# Altium schematic symbol library Resistors.SchLib: 193 symbols (part 2 of 3)
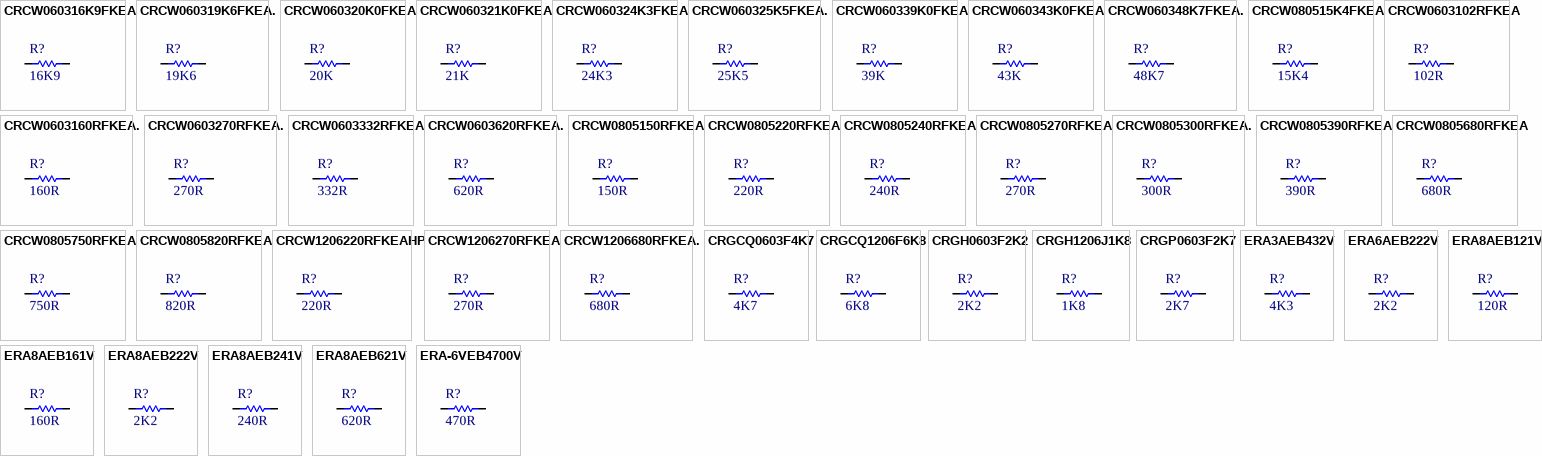
[diagram p5: symbols CRCW060316K9FKEA to ERA-6VEB4700V]

## ERA-6VEB4700V
designator R?, comment 470R
RES 470R, ±0.1%, 125mW, 200V, 0805 [2012 Metric], Thin Film; Manufacturer: Panasonic; Manufacturer Part Number: ERA-6VEB4700V; Voltage: 100V; Temperature Coefficient: ± 25ppm/°C; Value: 470R; Supplier 1: Mouser; Supplier Part Number 1: 667-ERA-6VEB4700V; Tolerance: ± 0.1%; Power: 125mW; Package: 0805 [2012 Metric]; Part Type: Thin Film; ComponentLink1Description: Datasheet; ComponentLink1URL: https://eu.mouser.com/datasheet/2/315/Panasonic_Resistor_Thin_Film_(ERA-xV_2c_ERA-xK_Ser-1815278.pdf; Mounting: SMD
footprint RESC2012N (Chip Resistor, Body 2.0x1.3mm, IPC Medium Density)
pins: 1, 2
1 alternate drawing of the same symbol

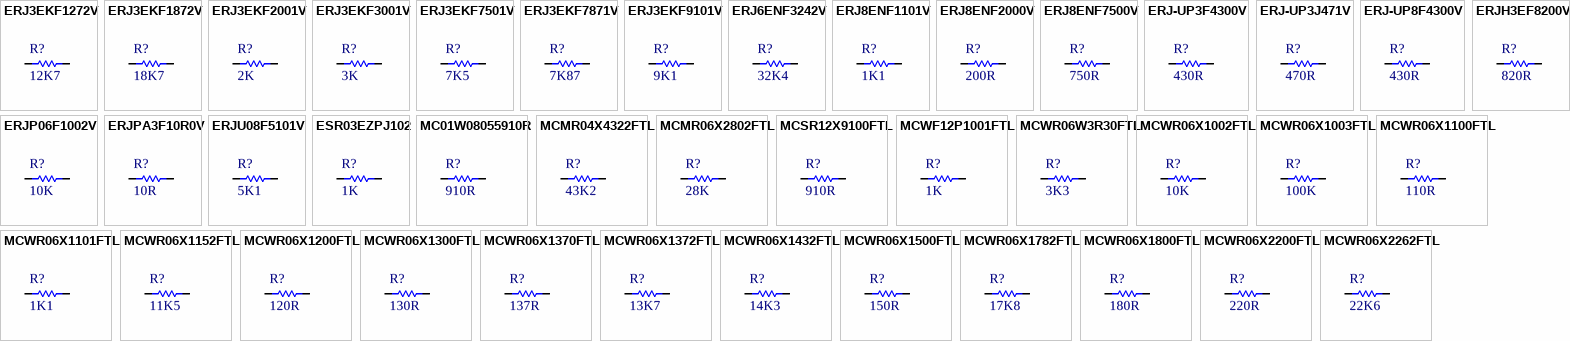
[diagram p2: symbols ERJ3EKF1272V to MCWR06X2262FTL]

## ERJ3EKF1272V
designator R?, comment 12K7
RES 12K7, ± 1%, 100 mW, 0603 [1608 Metric], Thick Film; Manufacturer: PANASONIC; Manufacturer Part Number: ERJ3EKF1272V; Power: 100mW; Voltage: 75V; Temperature Coefficient: ± 100ppm/°C; Value: 12K7; Supplier 1: Farnell; Supplier Part Number 1: 2059415; Tolerance: ± 1%; Package: 0603 [1608 Metric]; Part Type: Thick Film; ComponentLink1Description: Datasheet; ComponentLink1URL: https://industrial.panasonic.com/cdbs/www-data/pdf/RDA0000/AOA0000C304.pdf; Mounting: SMD
footprint RESC1608N (Chip Resistor, Body 1.6x0.8mm, IPC Medium Density)
pins: 1, 2
1 alternate drawing of the same symbol

## ERJ3EKF1872V
designator R?, comment 18K7
RES 18K7, ± 1%, 100 mW, 0603 [1608 Metric], Thick Film; Manufacturer: PANASONIC; Manufacturer Part Number: ERJ3EKF1872V; Power: 100mW; Voltage: 75V; Temperature Coefficient: ± 100ppm/°C; Value: 18K7; Supplier 1: Farnell; Supplier Part Number 1: 2059429; Tolerance: ± 1%; Package: 0603 [1608 Metric]; Part Type: Thick Film; ComponentLink1Description: Datasheet; ComponentLink1URL: http://industrial.panasonic.com/cdbs/www-data/pdf/RDA0000/AOA0000C304.pdf; Mounting: SMD
footprint RESC1608N (Chip Resistor, Body 1.6x0.8mm, IPC Medium Density)
pins: 1, 2
1 alternate drawing of the same symbol

## ERJ3EKF2001V
designator R?, comment 2K
RES 2K, ±1%, 125mW, 75V, 0603 [1608 Metric], Thick Film; Manufacturer: PANASONIC; Manufacturer Part Number: ERJ3EKF2001V; Power: 100mW; Temperature Coefficient: ± 100ppm/°C; Value: 2K; Supplier 1: Farnell; Supplier Part Number 1: 2059343; Tolerance: ± 1%; Voltage: 75V; Package: 0603 [1608 Metric]; Part Type: Thick Film; ComponentLink1Description: Datasheet; ComponentLink1URL: http://industrial.panasonic.com/cdbs/www-data/pdf/RDA0000/AOA0000C304.pdf; Mounting: SMD
footprint RESC1608N (Chip Resistor, Body 1.6x0.8mm, IPC Medium Density)
pins: 1, 2
1 alternate drawing of the same symbol

## ERJ3EKF3001V
designator R?, comment 3K
RES 3K, ±1%, 100mW, 75V, 0603 [1608 Metric], Thick Film; Manufacturer: PANASONIC; Manufacturer Part Number: ERJ3EKF3001V; Temperature Coefficient: ± 100ppm/°C; Value: 3K; Supplier 1: Farnell; Supplier Part Number 1: 2059357; Tolerance: ± 1%; Power: 100mW; Voltage: 75V; Package: 0603 [1608 Metric]; Part Type: Thick Film; ComponentLink1Description: Datasheet; ComponentLink1URL: http://industrial.panasonic.com/cdbs/www-data/pdf/RDA0000/AOA0000C304.pdf; Mounting: SMD
footprint RESC1608N (Chip Resistor, Body 1.6x0.8mm, IPC Medium Density)
pins: 1, 2
1 alternate drawing of the same symbol

## ERJ3EKF7501V
designator R?, comment 7K5
RES 7K5, ±1%, 100mW, 75V, 0603 [1608 Metric], Thick Film; Manufacturer: PANASONIC; Manufacturer Part Number: ERJ3EKF7501V; Temperature Coefficient: ± 100ppm/°C; Value: 7K5; Supplier 1: Farnell; Supplier Part Number 1: 2059395; Tolerance: ± 1%; Power: 100mW; Voltage: 75V; Package: 0603 [1608 Metric]; Part Type: Thick Film; ComponentLink1Description: Datasheet; ComponentLink1URL: http://industrial.panasonic.com/cdbs/www-data/pdf/RDA0000/AOA0000C304.pdf; Mounting: SMD
footprint RESC1608N (Chip Resistor, Body 1.6x0.8mm, IPC Medium Density)
pins: 1, 2
1 alternate drawing of the same symbol

## ERJ3EKF7871V
designator R?, comment 7K87
RES 7K87, ±1%, 100mW, 75V, 0603 [1608 Metric], Thick Film; Manufacturer: PANASONIC; Manufacturer Part Number: ERJ3EKF7871V; Temperature Coefficient: ± 100ppm/°C; Value: 7K87; Supplier 1: Farnell; Supplier Part Number 1: 2059397RL; Tollerance: ± 1%; Power: 100mW; Voltage: 75V; Package: 0603 [1608 Metric]; Part Type: Thick Film; ComponentLink1Description: Datasheet; ComponentLink1URL: https://industrial.panasonic.com/cdbs/www-data/pdf/RDA0000/AOA0000C304.pdf; Mounting: SMD
footprint RESC1608N (Chip Resistor, Body 1.6x0.8mm, IPC Medium Density)
pins: 1, 2
1 alternate drawing of the same symbol

## ERJ3EKF9101V
designator R?, comment 9K1
RES 9K1, ±1%, 100mW, 75V, 0603 [1608 Metric], Thick Film; Manufacturer: PANASONIC; Manufacturer Part Number: ERJ3EKF9101V; Temperature Coefficient: ± 100ppm/°C; Value: 9K1; Supplier 1: Farnell; Supplier Part Number 1: 2059404; Tolerance: ± 1%; Power: 100mW; Voltage: 75V; Package: 0603 [1608 Metric]; Part Type: Thick Film; ComponentLink1Description: Datasheet; ComponentLink1URL: http://industrial.panasonic.com/cdbs/www-data/pdf/RDA0000/AOA0000C304.pdf; Mounting: SMD
footprint RESC1608N (Chip Resistor, Body 1.6x0.8mm, IPC Medium Density)
pins: 1, 2
1 alternate drawing of the same symbol

## ERJ6ENF3242V
designator R?, comment 32K4
RES 32K4, ±1%, 125mW, 150V, 0805 [2012 Metric], Thick Film; Manufacturer: PANASONIC; Manufacturer Part Number: ERJ6ENF3242V; Temperature Coefficient: ± 100ppm/°C; Value: 32K4; Supplier 1: Farnell; Supplier Part Number 1: 2303704; Tolerance: ± 1%; Power: 125mW; Voltage: 150V; Package: 0805 [2012 Metric]; Part Type: Thick Film; ComponentLink1Description: Datasheet; ComponentLink1URL: https://industrial.panasonic.com/cdbs/www-data/pdf/RDA0000/AOA0000C304.pdf; Mounting: SMD
footprint RESC2012N (Chip Resistor, Body 2.0x1.3mm, IPC Medium Density)
pins: 1, 2
1 alternate drawing of the same symbol

## ERJ8ENF1101V
designator R?, comment 1K1
RES 1K1, ±1%, 250mW, 200V, 1206 [3216 Metric], Thick Film; Manufacturer: PANASONIC; Manufacturer Part Number: ERJ8ENF1101V; Temperature Coefficient: ± 100ppm/°C; Value: 1K1; Supplier 1: Farnell; Supplier Part Number 1: 2307320; Tolerance: ± 1%; Power: 250mW; Voltage: 200V; Package: 1206 [3216 Metric]; Part Type: Thick Film; ComponentLink1Description: Datasheet; ComponentLink1URL: http://industrial.panasonic.com/cdbs/www-data/pdf/RDA0000/AOA0000C304.pdf; Mounting: SMD
footprint RESC3216N (Chip Resistor, Body 3.2x1.6mm, IPC Medium Density)
pins: 1, 2
1 alternate drawing of the same symbol

## ERJ8ENF2000V
designator R?, comment 200R
RES 200R, ±1%, 250mW, 200V, 1206 [3216 Metric], Thick Film; Manufacturer: PANASONIC; Manufacturer Part Number: ERJ8ENF2000V; Temperature Coefficient: ± 100ppm/°C; Value: 200R; Supplier 1: Farnell; Supplier Part Number 1: 2057752; Tolerance: ± 1%; Power: 250mW; Voltage: 200V; Package: 1206 [3216 Metric]; Part Type: Thick Film; ComponentLink1Description: Datasheet; ComponentLink1URL: https://industrial.panasonic.com/cdbs/www-data/pdf/RDA0000/AOA0000C304.pdf; Mounting: SMD
footprint RESC3216N (Chip Resistor, Body 3.2x1.6mm, IPC Medium Density)
pins: 1, 2
1 alternate drawing of the same symbol

## ERJ8ENF7500V
designator R?, comment 750R
RES 750R, ±1%, 250mW, 200V, 1206 [3216 Metric], Thick Film; Manufacturer: PANASONIC; Manufacturer Part Number: ERJ8ENF7500V; Temperature Coefficient: ± 100ppm/°C; Value: 750R; Supplier 1: Farnell; Supplier Part Number 1: 2057760; Tolerance: ± 1%; Power: 250mW; Voltage: 200V; Package: 1206 [3216 Metric]; Part Type: Thick Film; ComponentLink1Description: Datasheet; ComponentLink1URL: http://industrial.panasonic.com/cdbs/www-data/pdf/RDA0000/AOA0000C304.pdf; Mounting: SMD
footprint RESC3216N (Chip Resistor, Body 3.2x1.6mm, IPC Medium Density)
pins: 1, 2
1 alternate drawing of the same symbol

## ERJ-UP3F4300V
designator R?, comment 430R
RES 430R, ±1%, 100mW, 150V, 0603 [1608 Metric], Thick Film; Manufacturer: Panasonic; Manufacturer Part Number: ERJ-UP3F4300V; Power: 250mW; Temperature Coefficient: ± 100ppm/°C; Value: 430R; Supplier 1: Mouser; Supplier Part Number 1: 667-ERJ-UP3F4300V; Tolerance: ± 1%; Voltage: 150V; Package: 0603 [1608 Metric]; Part Type: Thick Film; ComponentLink1Description: Datasheet; ComponentLink1URL: https://eu.mouser.com/datasheet/2/315/Panasonic_Resistors_Thick_Film_Anti_Sulf_Anti_Surg-1825099.pdf; Mounting: SMD
footprint RESC1608N (Chip Resistor, Body 1.6x0.8mm, IPC Medium Density)
pins: 1, 2
1 alternate drawing of the same symbol

## ERJ-UP3J471V
designator R?, comment 470R
RES 470R, ±5%, 250mW, 150V, 0603 [1608 Metric], Thick Film; Manufacturer: Panasonic; Manufacturer Part Number: ERJ-UP3J471V; Temperature Coefficient: ± 100ppm/°C; Value: 470R; Supplier 1: Mouser; Supplier Part Number 1: 667-ERJ-UP3J471V; Tolerance: ± 5%; Power: 250mW; Voltage: 150V; Package: 0603 [1608 Metric]; Part Type: Thick Film; ComponentLink1Description: Datasheet; ComponentLink1URL: https://eu.mouser.com/datasheet/2/315/Panasonic_Resistors_Thick_Film_Anti_Sulf_Anti_Surg-1825099.pdf; Mounting: SMD
footprint RESC1608N (Chip Resistor, Body 1.6x0.8mm, IPC Medium Density)
pins: 1, 2
1 alternate drawing of the same symbol

## ERJ-UP8F4300V
designator R?, comment 430R
RES 430R, ±1%, 660mW, 500V, 1206 [3216 Metric], Thick Film; Manufacturer: Panasonic; Manufacturer Part Number: ERJ-UP8F4300V; Temperature Coefficient: ± 100ppm/°C; Value: 430R; Supplier 1: Mouser; Supplier Part Number 1: 667-ERJ-UP8F4300V; Tolerance: ± 1%; Power: 660mW; Voltage: 500V; Package: 1206 [3216 Metric]; Part Type: Thick Film; ComponentLink1Description: Datasheet; ComponentLink1URL: https://eu.mouser.com/ProductDetail/Panasonic/ERJ-UP8F4300V?qs=sGAEpiMZZMtlubZbdhIBIJmf1RnqvkayWGtjYlusRcs%3D; Mounting: SMD
footprint RESC3216N (Chip Resistor, Body 3.2x1.6mm, IPC Medium Density)
pins: 1, 2
1 alternate drawing of the same symbol

## ERJH3EF8200V
designator R?, comment 820R
RES 820R, ±1%, 125mW, 75V, 0603 [1608 Metric], Thick Film; Manufacturer: PANASONIC; Manufacturer Part Number: ERJH3EF8200V; Power: 100mW; Temperature Coefficient: ± 100ppm/°C; Value: 820R; Supplier 1: Farnell; Supplier Part Number 1: 3645208; Tolerance: ± 1%; Voltage: 75V; Package: 0603 [1608 Metric]; Part Type: Thick Film; ComponentLink1Description: Datasheet; ComponentLink1URL: http://www.farnell.com/datasheets/3179330.pdf; Mounting: SMD
footprint RESC1608N (Chip Resistor, Body 1.6x0.8mm, IPC Medium Density)
pins: 1, 2
1 alternate drawing of the same symbol

## ERJP06F1002V
designator R?, comment 10K
RES 10K, ±10%, 500mW, 400V, 0805 [2012 Metric], Thick Film; Manufacturer: PANASONIC; Manufacturer Part Number: ERJP06F1002V; Tolerance: ± 1%; Temperature Coefficient: ± 100ppm/°C; Value: 10K; Supplier 1: Farnell; Supplier Part Number 1: 1750767; Power: 500mW; Voltage: 400V; Package: 0805 [2012 Metric]; Part Type: Thick Film; ComponentLink1Description: Datasheet; ComponentLink1URL: https://industrial.panasonic.com/cdbs/www-data/pdf/RDO0000/AOA0000C331.pdf; Mounting: SMD
footprint RESC2012N (Chip Resistor, Body 2.0x1.3mm, IPC Medium Density)
pins: 1, 2
1 alternate drawing of the same symbol

## ERJPA3F10R0V
designator R?, comment 10R
RES 10R, ±1%, 250mW, 150V, 0603 [1608 Metric], Thick Film; Manufacturer: PANASONIC; Manufacturer Part Number: ERJPA3F10R0V; Temperature Coefficient: ± 100ppm/°C; Value: 10R; Supplier 1: Farnell; Supplier Part Number 1: 2335834; Tolerance: ± 1%; Power: 250mW; Voltage: 150V; Package: 0603 [1608 Metric]; Part Type: Thick Film; ComponentLink1Description: Datasheet; ComponentLink1URL: http://industrial.panasonic.com/cdbs/www-data/pdf/RDO0000/AOA0000C331.pdf; Mounting: SMD
footprint RESC1608N (Chip Resistor, Body 1.6x0.8mm, IPC Medium Density)
pins: 1, 2
1 alternate drawing of the same symbol

## ERJU08F5101V
designator R?, comment 5K1
RES 5K1, ±1%, 250mW, 200V, 1206 [3216 Metric], Thick Film; Manufacturer: PANASONIC; Manufacturer Part Number: ERJU08F5101V; Temperature Coefficient: ± 100ppm/°C; Value: 5K1; Supplier 1: Farnell; Supplier Part Number 1: 2145668; Tolerance: ± 1%; Power: 250mW; Voltage: 200V; Package: 1206 [3216 Metric]; Part Type: Thick Film; ComponentLink1Description: Datasheet; ComponentLink1URL: http://www.farnell.com/datasheets/2059639.pdf; Mounting: SMD
footprint RESC3216N (Chip Resistor, Body 3.2x1.6mm, IPC Medium Density)
pins: 1, 2
1 alternate drawing of the same symbol

## ESR03EZPJ102
designator R?, comment 1K
RES 1K, ±1%, 250mW, 150V, 0603 [1608 Metric], Thick Film; Manufacturer: ROHM; Manufacturer Part Number: ESR03EZPJ102; Tolerance: ± 5%; Temperature Coefficient: ± 200ppm/°C; Value: 1K; Supplier 1: Farnell; Supplier Part Number 1: 2887152; Power: 250mW; Voltage: 150V; Package: 0603 [1608 Metric]; Part Type: Thick Film; ComponentLink1Description: Datasheet; ComponentLink1URL: http://www.farnell.com/datasheets/2611941.pdf; Mounting: SMD
footprint RESC1608N (Chip Resistor, Body 1.6x0.8mm, IPC Medium Density)
pins: 1, 2
1 alternate drawing of the same symbol

## MC01W08055910R
designator R?, comment 910R
RES 910R, ±5%, 100mW, 150V, 0805 [2012 Metric], Thick Film; Manufacturer: MULTICOMP PRO; Manufacturer Part Number: MC01W08055910R; Temperature Coefficient: ± 200ppm/°C; Value: 910R; Supplier 1: Farnell; Supplier Part Number 1: 9334947; Tolerance: ± 5%; Power: 100mW; Voltage: 150V; Package: 0805 [2012 Metric]; Part Type: Thick Film; ComponentLink1Description: Datasheet; ComponentLink1URL: http://www.farnell.com/datasheets/1716700.pdf; Mounting: SMD
footprint RESC2012N (Chip Resistor, Body 2.0x1.3mm, IPC Medium Density)
pins: 1, 2
1 alternate drawing of the same symbol

## MCMR04X4322FTL
designator R?, comment 43K2
RES 43K2, ±1%, 62.5mW, 50V, 0402 [1005 Metric], Thick Film; Manufacturer: MULTICOMP PRO; Manufacturer Part Number: MCMR04X4322FTL; Temperature Coefficient: ± 100ppm/°C; Value: 43K2; Supplier 1: Farnell; Supplier Part Number 1: 2073038; Tolerance: ± 1%; Power: 62.5mW; Voltage: 50V; Package: 0603 [1608 Metric]; Part Type: Thick Film; ComponentLink1Description: Datasheet; ComponentLink1URL: http://www.farnell.com/datasheets/2860635.pdf; Mounting: SMD
footprint RESC1608N (Chip Resistor, Body 1.6x0.8mm, IPC Medium Density)
pins: 1, 2
1 alternate drawing of the same symbol

## MCMR06X2802FTL
designator R?, comment 28K
RES 28K, ±1%, 100 mW, 0603 [1608 Metric], Thick Film; Manufacturer: MULTICOMP PRO; Manufacturer Part Number: MCMR06X2802FTL; Power: 100mW; Voltage: 75V; Temperature Coefficient: ± 100ppm/°C; Value: 28K; Supplier 1: Farnell; Supplier Part Number 1: 2073457; Tolerance: ± 1%; Package: 0603 [1608 Metric]; Part Type: Thick Film; ComponentLink1Description: Datasheet; ComponentLink1URL: http://www.farnell.com/datasheets/2860635.pdf; Mounting: SMD
footprint RESC1608N (Chip Resistor, Body 1.6x0.8mm, IPC Medium Density)
pins: 1, 2
1 alternate drawing of the same symbol

## MCSR12X9100FTL
designator R?, comment 910R
RES 910R, ±1%, 250mW, 200V, 1206 [3216 Metric], Thick Film; Manufacturer: MULTICOMP PRO; Manufacturer Part Number: MCSR12X9100FTL; Temperature Coefficient: ± 100ppm/°C; Value: 910R; Supplier 1: Farnell; Supplier Part Number 1: 2074707; Tolerance: ± 1%; Power: 250mW; Voltage: 200V; Package: 1206 [3216 Metric]; Part Type: Thick Film; ComponentLink1URL: http://www.farnell.com/datasheets/2563624.pdf; ComponentLink1Description: Datasheet; Mounting: SMD
footprint RESC3216N (Chip Resistor, Body 3.2x1.6mm, IPC Medium Density)
pins: 1, 2
1 alternate drawing of the same symbol

## MCWF12P1001FTL
designator R?, comment 1K
RES 1K, ±1%, 500mW, 200V, 1206 [3216 Metric], Thick Film; Manufacturer: MULTICOMP PRO; Manufacturer Part Number: MCWF12P1001FTL; Temperature Coefficient: ± 100ppm/°C; Value: 1K; Supplier 1: Farnell; Supplier Part Number 1: 2694437; Tolerance: ± 1%; Power: 500mW; Voltage: 200V; Package: 1206 [3216 Metric]; Part Type: Thick Film; ComponentLink1Description: Datasheet; ComponentLink1URL: http://www.farnell.com/datasheets/2864033.pdf; Mounting: SMD
footprint RESC3216N (Chip Resistor, Body 3.2x1.6mm, IPC Medium Density)
pins: 1, 2
1 alternate drawing of the same symbol

## MCWR06W3R30FTL
designator R?, comment 3K3
RES 3K3, ±1%, 150mW, 75V, 0603 [1608 Metric], Thick Film; Manufacturer: MULTICOMP PRO; Manufacturer Part Number: MCWR06W3R30FTL; Temperature Coefficient: ± 200ppm/°C; Value: 3K3; Supplier 1: Farnell; Supplier Part Number 1: 2447365; Tolerance: ± 1%; Power: 150mW; Voltage: 75V; Package: 0603 [1608 Metric]; Part Type: Thick Film; ComponentLink1Description: Datasheet; ComponentLink1URL: http://www.farnell.com/datasheets/2860681.pdf; Mounting: SMD
footprint RESC1608N (Chip Resistor, Body 1.6x0.8mm, IPC Medium Density)
pins: 1, 2
1 alternate drawing of the same symbol

## MCWR06X1002FTL
designator R?, comment 10K
RES 10K, ±1%, 100mW, 75V, 0603 [1608 Metric], Thick Film; Manufacturer: MULTICOMP PRO; Manufacturer Part Number: MCWR06X1002FTL; Temperature Coefficient: ± 100ppm/°C; Value: 10K; Supplier 1: Farnell; Supplier Part Number 1: 2447230; Tolerance: ± 1%; Power: 100mW; Voltage: 75V; Package: 0603 [1608 Metric]; Part Type: Thick Film; ComponentLink1Description: Datasheet; ComponentLink1URL: http://www.farnell.com/datasheets/2860681.pdf; Mounting: SMD
footprint RESC1608N (Chip Resistor, Body 1.6x0.8mm, IPC Medium Density)
pins: 1, 2
1 alternate drawing of the same symbol

## MCWR06X1003FTL
designator R?, comment 100K
RES 100K, ±1%, 125mW, 75V, 0603 [1608 Metric], Thick Film; Manufacturer: MULTICOMP PRO; Manufacturer Part Number: MCWR06X1003FTL; Power: 100mW; Temperature Coefficient: ± 100ppm/°C; Value: 100K; Supplier 1: Farnell; Supplier Part Number 1: 2447226; Tolerance: ± 1%; Voltage: 75V; Package: 0603 [1608 Metric]; Part Type: Thick Film; ComponentLink1Description: Datasheet; ComponentLink1URL: http://www.farnell.com/datasheets/2860681.pdf; Mounting: SMD
footprint RESC1608N (Chip Resistor, Body 1.6x0.8mm, IPC Medium Density)
pins: 1, 2
1 alternate drawing of the same symbol

## MCWR06X1100FTL
designator R?, comment 110R
RES 110R, ±1%, 100mW, 75V, 0603 [1608 Metric], Thick Film; Manufacturer: MULTICOMP PRO; Manufacturer Part Number: MCWR06X1100FTL; Temperature Coefficient: ± 100ppm/°C; Value: 110R; Supplier 1: Farnell; Supplier Part Number 1: 2447235; Tolerance: ± 1%; Power: 100mW; Voltage: 75V; Package: 0603 [1608 Metric]; Part Type: Thick Film; ComponentLink1Description: Datasheet; ComponentLink1URL: http://www.farnell.com/datasheets/2860681.pdf; Mounting: SMD
footprint RESC1608N (Chip Resistor, Body 1.6x0.8mm, IPC Medium Density)
pins: 1, 2
1 alternate drawing of the same symbol

## MCWR06X1101FTL
designator R?, comment 1K1
RES 1K1, ±1%, 125mW, 75V, 0603 [1608 Metric], Thick Film; Manufacturer: MULTICOMP PRO; Manufacturer Part Number: MCWR06X1101FTL; Power: 100mW; Temperature Coefficient: ± 100ppm/°C; Value: 1K1; Supplier 1: Farnell; Supplier Part Number 1: 2447274; Tolerance: ± 1%; Voltage: 75V; Package: 0603 [1608 Metric]; Part Type: Thick Film; ComponentLink1Description: Datasheet; ComponentLink1URL: http://www.farnell.com/datasheets/2860681.pdf; Mounting: SMD
footprint RESC1608N (Chip Resistor, Body 1.6x0.8mm, IPC Medium Density)
pins: 1, 2
1 alternate drawing of the same symbol

## MCWR06X1152FTL
designator R?, comment 11K5
RES 11K5, ±1%, 100mW, 75V, 0603 [1608 Metric], Thick Film; Manufacturer: MULTICOMP PRO; Manufacturer Part Number: MCWR06X1152FTL; Temperature Coefficient: ± 100ppm/°C; Value: 11K5; Supplier 1: Farnell; Supplier Part Number 1: 2447238; Tollerance: ± 1%; Power: 100mW; Voltage: 75V; Package: 0603 [1608 Metric]; Part Type: Thick Film; ComponentLink1Description: Datasheet; ComponentLink1URL: http://www.farnell.com/datasheets/2860681.pdf; Mounting: SMD
footprint RESC1608N (Chip Resistor, Body 1.6x0.8mm, IPC Medium Density)
pins: 1, 2
1 alternate drawing of the same symbol

## MCWR06X1200FTL
designator R?, comment 120R
RES 120R, ±1%, 100mW, 0603 [1608 Metric], Thick Film; Manufacturer: MULTICOMP PRO; Manufacturer Part Number: MCWR06X1200FTL; Voltage: 75V; Temperature Coefficient: ± 100ppm/°C; Value: 120R; Supplier 1: Farnell; Supplier Part Number 1: 2447552; Tolerance: ± 1%; Power: 100mW; Package: 0603 [1608 Metric]; Part Type: Thick Film; ComponentLink1Description: Datasheet; ComponentLink1URL: http://www.farnell.com/datasheets/2860681.pdf; Mounting: SMD
footprint RESC2012N (Chip Resistor, Body 2.0x1.3mm, IPC Medium Density)
pins: 1, 2
1 alternate drawing of the same symbol

## MCWR06X1300FTL
designator R?, comment 130R
RES 130R, ±1%, 100mW, 75V, 0603 [1608 Metric], Thick Film; Manufacturer: MULTICOMP PRO; Manufacturer Part Number: MCWR06X1300FTL; Temperature Coefficient: ± 100ppm/°C; Value: 130R; Supplier 1: Farnell; Supplier Part Number 1: 2447248; Tolerance: ± 1%; Power: 100mW; Voltage: 75V; Package: 0603 [1608 Metric]; Part Type: Thick Film; ComponentLink1Description: Datasheet; ComponentLink1URL: http://www.farnell.com/datasheets/2860681.pdf; Mounting: SMD
footprint RESC1608N (Chip Resistor, Body 1.6x0.8mm, IPC Medium Density)
pins: 1, 2
1 alternate drawing of the same symbol

## MCWR06X1370FTL
designator R?, comment 137R
RES 137R, ±1%, 100mW, 75V, 0603 [1608 Metric], Thick Film; Manufacturer: MULTICOMP PRO; Manufacturer Part Number: MCWR06X1370FTL; Temperature Coefficient: ± 100ppm/°C; Value: 137R; Supplier 1: Farnell; Supplier Part Number 1: 2694714; Tollerance: ± 1%; Power: 100mW; Voltage: 75V; Package: 0603 [1608 Metric]; Part Type: Thick Film; ComponentLink1Description: Datasheet; ComponentLink1URL: http://www.farnell.com/datasheets/2189593.pdf; Mounting: SMD
footprint RESC1608N (Chip Resistor, Body 1.6x0.8mm, IPC Medium Density)
pins: 1, 2
1 alternate drawing of the same symbol

## MCWR06X1372FTL
designator R?, comment 13K7
RES 13K7, ±1%, 100mW, 75V, 0603 [1608 Metric], Thick Film; Manufacturer: MULTICOMP PRO; Manufacturer Part Number: MCWR06X1372FTL; Temperature Coefficient: ± 100ppm/°C; Value: 13K7; Supplier 1: Farnell; Supplier Part Number 1: 2694716; Tollerance: ± 1%; Power: 100mW; Voltage: 75V; Package: 0603 [1608 Metric]; Part Type: Thick Film; ComponentLink1Description: Datasheet; ComponentLink1URL: http://www.farnell.com/datasheets/2189593.pdf; Mounting: SMD
footprint RESC1608N (Chip Resistor, Body 1.6x0.8mm, IPC Medium Density)
pins: 1, 2
1 alternate drawing of the same symbol

## MCWR06X1432FTL
designator R?, comment 14K3
RES 14K3, ±1%, 100mW, 0603 [1608 Metric], Thick Film; Manufacturer: MULTICOMP PRO; Manufacturer Part Number: MCWR06X1432FTL; Voltage: 75V; Temperature Coefficient: ± 100ppm/°C; Value: 14K3; Supplier 1: Farnell; Supplier Part Number 1: 2694722; Tolerance: ± 1%; Power: 100mW; Package: 0603 [1608 Metric]; Part Type: Thick Film; ComponentLink1Description: Datasheet; ComponentLink1URL: http://www.farnell.com/datasheets/2189593.pdf; Mounting: SMD
footprint RESC1608N (Chip Resistor, Body 1.6x0.8mm, IPC Medium Density)
pins: 1, 2
1 alternate drawing of the same symbol

## MCWR06X1500FTL
designator R?, comment 150R
RES 150R, ±1%, 100mW, 75V, 0603 [1608 Metric], Thick Film; Manufacturer: MULTICOMP PRO; Manufacturer Part Number: MCWR06X1500FTL; Temperature Coefficient: ± 100ppm/°C; Value: 150R; Supplier 1: Farnell; Supplier Part Number 1: 2447255; Tolerance: ± 1%; Power: 100mW; Voltage: 75V; Package: 0603 [1608 Metric]; Part Type: Thick Film; ComponentLink1Description: Datasheet; ComponentLink1URL: http://www.farnell.com/datasheets/2860681.pdf; Mounting: SMD
footprint RESC1608N (Chip Resistor, Body 1.6x0.8mm, IPC Medium Density)
pins: 1, 2
1 alternate drawing of the same symbol

## MCWR06X1782FTL
designator R?, comment 17K8
RES 17K8, ± 1%, 100 mW, 0603 [1608 Metric], Thick Film; Manufacturer: MULTICOMP PRO; Manufacturer Part Number: MCWR06X1782FTL; Power: 100mW; Voltage: 75V; Temperature Coefficient: ± 100ppm/°C; Supplier 1: Farnell; Supplier Part Number 1: 2447265; Tolerance: ± 1%; Package: 0603 [1608 Metric]; Part Type: Thick Film; ComponentLink1Description: Datasheet; ComponentLink1URL: http://www.farnell.com/datasheets/2860681.pdf; Mounting: SMD; Value: 17K8
footprint RESC1608N (Chip Resistor, Body 1.6x0.8mm, IPC Medium Density)
pins: 1, 2
1 alternate drawing of the same symbol

## MCWR06X1800FTL
designator R?, comment 180R
RES 180R, ±1%, 100mW, 0603 [1608 Metric], Thick Film; Manufacturer: MULTICOMP PRO; Manufacturer Part Number: MCWR06X1800FTL; Voltage: 75V; Temperature Coefficient: ± 100ppm/°C; Value: 180R; Supplier 1: Farnell; Supplier Part Number 1: 2447267; Tolerance: ± 1%; Power: 100mW; Package: 0603 [1608 Metric]; Part Type: Thick Film; ComponentLink1Description: Datasheet; ComponentLink1URL: http://www.farnell.com/datasheets/2860681.pdf; Mounting: SMD
footprint RESC1608N (Chip Resistor, Body 1.6x0.8mm, IPC Medium Density)
pins: 1, 2
1 alternate drawing of the same symbol

## MCWR06X2200FTL
designator R?, comment 220R
RES 220R, ±1%, 100mW, 75V, 0603 [1608 Metric], Thick Film; Manufacturer: MULTICOMP PRO; Manufacturer Part Number: MCWR06X2200FTL; Temperature Coefficient: ± 100ppm/°C; Supplier 1: Farnell; Supplier Part Number 1: 2447298; Tolerance: ± 1%; Power: 100mW; Voltage: 75V; Package: 0603 [1608 Metric]; Part Type: Thick Film; ComponentLink1Description: Datasheet; ComponentLink1URL: http://www.farnell.com/datasheets/2860681.pdf; Mounting: SMD; Value: 220R
footprint RESC1608N (Chip Resistor, Body 1.6x0.8mm, IPC Medium Density)
pins: 1, 2
1 alternate drawing of the same symbol

## MCWR06X2262FTL
designator R?, comment 22K6
RES 22K6, ±1%, 100mW, 75V, 0603 [1608 Metric], Thick Film; Manufacturer: MULTICOMP PRO; Manufacturer Part Number: MCWR06X2262FTL; Temperature Coefficient: ± 100ppm/°C; Value: 22K6; Supplier 1: Farnell; Supplier Part Number 1: 2447300; Tollerance: ± 1%; Power: 100mW; Voltage: 75V; Package: 0603 [1608 Metric]; Part Type: Thick Film; ComponentLink1Description: Datasheet; ComponentLink1URL: http://www.farnell.com/datasheets/2860681.pdf; Mounting: SMD
footprint RESC1608N (Chip Resistor, Body 1.6x0.8mm, IPC Medium Density)
pins: 1, 2
1 alternate drawing of the same symbol

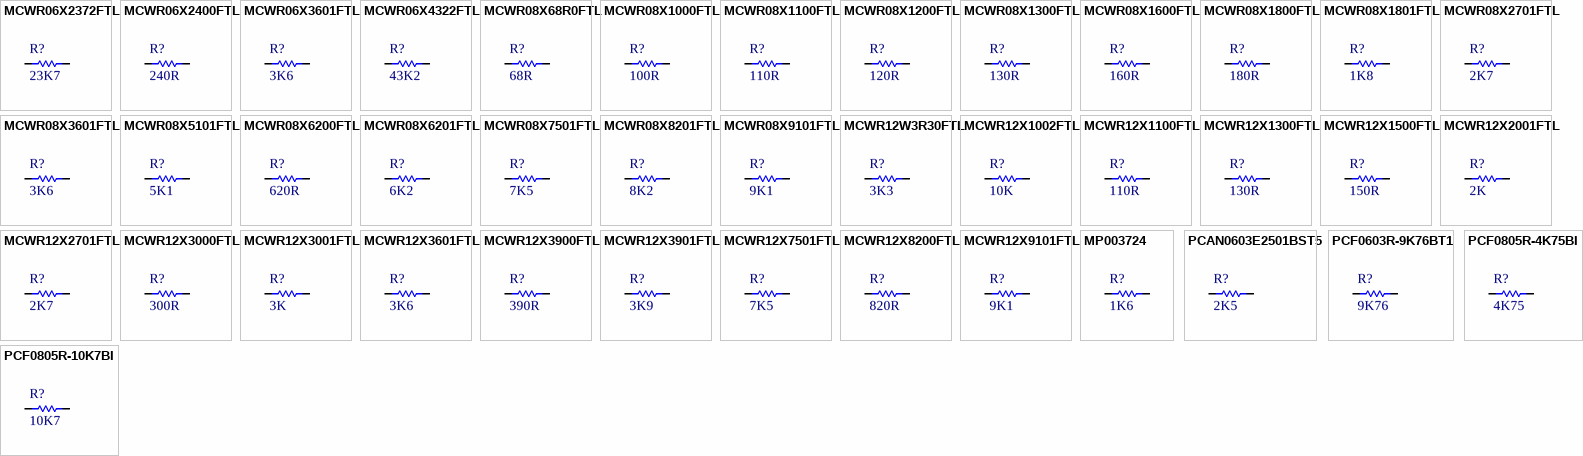
[diagram p3: symbols MCWR06X2372FTL to PCF0805R-10K7BI]

## MCWR06X2372FTL
designator R?, comment 23K7
RES 23K7, ±1%, 100mW, 75V, 0603 [1608 Metric], Thick Film; Manufacturer: MULTICOMP PRO; Manufacturer Part Number: MCWR06X2372FTL; Temperature Coefficient: ± 100ppm/°C; Value: 23K7; Supplier 1: Farnell; Supplier Part Number 1: 2447303; Tollerance: ± 1%; Power: 100mW; Voltage: 75V; Package: 0603 [1608 Metric]; Part Type: Thick Film; ComponentLink1Description: Datasheet; ComponentLink1URL: http://www.farnell.com/datasheets/2860681.pdf; Mounting: SMD
footprint RESC1608N (Chip Resistor, Body 1.6x0.8mm, IPC Medium Density)
pins: 1, 2
1 alternate drawing of the same symbol

## MCWR06X2400FTL
designator R?, comment 240R
RES 240R, ±1%, 100mW, 75V, 0603 [1608 Metric], Thick Film; Manufacturer: MULTICOMP PRO; Manufacturer Part Number: MCWR06X2400FTL; Temperature Coefficient: ± 100ppm/°C; Value: 240R; Supplier 1: Farnell; Supplier Part Number 1: 2447305; Tolerance: ± 1%; Power: 100mW; Voltage: 75V; Package: 0603 [1608 Metric]; Part Type: Thick Film; ComponentLink1Description: Datasheet; ComponentLink1URL: http://www.farnell.com/datasheets/2860681.pdf; Mounting: SMD
footprint RESC1608N (Chip Resistor, Body 1.6x0.8mm, IPC Medium Density)
pins: 1, 2
1 alternate drawing of the same symbol

## MCWR06X3601FTL
designator R?, comment 3K6
RES 3K6, ±1%, 100mW, 75V, 0603 [1608 Metric], Thick Film; Manufacturer: MULTICOMP PRO; Manufacturer Part Number: MCWR06X3601FTL; Temperature Coefficient: ± 100ppm/°C; Value: 3K6; Supplier 1: Farnell; Supplier Part Number 1: 2447362; Tolerance: ± 1%; Power: 100mW; Voltage: 75V; Package: 0603 [1608 Metric]; Part Type: Thick Film; ComponentLink1Description: Datasheet; ComponentLink1URL: http://www.farnell.com/datasheets/2860681.pdf; Mounting: SMD
footprint RESC1608N (Chip Resistor, Body 1.6x0.8mm, IPC Medium Density)
pins: 1, 2
1 alternate drawing of the same symbol

## MCWR06X4322FTL
designator R?, comment 43K2
RES 43K2, ±1%, 100mW, 75V, 0603 [1608 Metric], Thick Film; Manufacturer: MULTICOMP PRO; Manufacturer Part Number: MCWR06X4322FTL; Temperature Coefficient: ± 100ppm/°C; Value: 43K2; Supplier 1: Farnell; Supplier Part Number 1: 2694867; Tollerance: ± 1%; Power: 100mW; Voltage: 75V; Package: 0603 [1608 Metric]; Part Type: Thick Film; ComponentLink1Description: Datasheet; ComponentLink1URL: http://www.farnell.com/datasheets/2189593.pdf; Mounting: SMD
footprint RESC1608N (Chip Resistor, Body 1.6x0.8mm, IPC Medium Density)
pins: 1, 2
1 alternate drawing of the same symbol

## MCWR08X68R0FTL
designator R?, comment 68R
RES 68R, ±1%, 125mW, 150V, 0805 [2012 Metric], Thick Film; Manufacturer: MULTICOMP PRO; Manufacturer Part Number: MCWR08X68R0FTL; Temperature Coefficient: ± 100ppm/°C; Value: 68R; Supplier 1: Farnell; Supplier Part Number 1: 2447707; Tolerance: ± 1%; Power: 125mW; Voltage: 150V; Package: 0805 [2012 Metric]; Part Type: Thick Film; ComponentLink1Description: Datasheet; ComponentLink1URL: http://www.farnell.com/datasheets/2563624.pdf; Mounting: SMD
footprint RESC2012N (Chip Resistor, Body 2.0x1.3mm, IPC Medium Density)
pins: 1, 2
1 alternate drawing of the same symbol

## MCWR08X1000FTL
designator R?, comment 100R
RES 100R, ±10%, 125mW, 150V, 0805 [2012 Metric], Thick Film; Manufacturer: MULTICOMP; Manufacturer Part Number: MCWR08X1000FTL; Tolerance: ± 1%; Temperature Coefficient: ± 100ppm/°C; Value: 100R; Supplier 1: Farnell; Supplier Part Number 1: 2447552; Power: 125mW; Voltage: 150V; Package: 0805 [2012 Metric]; Part Type: Thick Film; ComponentLink1Description: Datasheet; ComponentLink1URL: http://www.farnell.com/datasheets/2860681.pdf; Mounting: SMD
footprint RESC2012N (Chip Resistor, Body 2.0x1.3mm, IPC Medium Density)
pins: 1, 2
1 alternate drawing of the same symbol

## MCWR08X1100FTL
designator R?, comment 110R
RES 110R, ±1%, 125mW, 150V, 0805 [2012 Metric], Thick Film; Manufacturer: MULTICOMP PRO; Manufacturer Part Number: MCWR08X1100FTL; Temperature Coefficient: ± 100ppm/°C; Value: 110R; Supplier 1: Farnell; Supplier Part Number 1: 2447558; Tolerance: ± 1%; Power: 125mW; Voltage: 150V; Package: 0805 [2012 Metric]; Part Type: Thick Film; ComponentLink1Description: Datasheet; ComponentLink1URL: http://www.farnell.com/datasheets/2563624.pdf; Mounting: SMD
footprint RESC2012N (Chip Resistor, Body 2.0x1.3mm, IPC Medium Density)
pins: 1, 2
1 alternate drawing of the same symbol

## MCWR08X1200FTL
designator R?, comment 120R
RES 120R, ±1%, 125mW, 0805 [2012 Metric], Thick Film; Manufacturer: MULTICOMP PRO; Manufacturer Part Number: MCWR08X1200FTL; Voltage: 150V; Temperature Coefficient: ± 100ppm/°C; Value: 120R; Supplier 1: Farnell; Supplier Part Number 1: 2447561; Tolerance: ± 1%; Power: 125mW; Package: 0805 [2012 Metric]; Part Type: Thick Film; ComponentLink1Description: Datasheet; ComponentLink1URL: http://www.farnell.com/datasheets/2563624.pdf; Mounting: SMD
footprint RESC2012N (Chip Resistor, Body 2.0x1.3mm, IPC Medium Density)
pins: 1, 2
1 alternate drawing of the same symbol

## MCWR08X1300FTL
designator R?, comment 130R
RES 130R, ±1%, 125mW, 150V, 0805 [2012 Metric], Thick Film; Manufacturer: MULTICOMP PRO; Manufacturer Part Number: MCWR08X1300FTL; Temperature Coefficient: ± 100ppm/°C; Value: 130R; Supplier 1: Farnell; Supplier Part Number 1: 2447568; Tolerance: ± 1%; Power: 125mW; Voltage: 150V; Package: 0805 [2012 Metric]; Part Type: Thick Film; ComponentLink1Description: Datasheet; ComponentLink1URL: http://www.farnell.com/datasheets/2563624.pdf; Mounting: SMD
footprint RESC2012N (Chip Resistor, Body 2.0x1.3mm, IPC Medium Density)
pins: 1, 2
1 alternate drawing of the same symbol

## MCWR08X1600FTL
designator R?, comment 160R
RES 160R, ±1%, 125mW, 0805 [2012 Metric], Thick Film; Manufacturer: MULTICOMP PRO; Manufacturer Part Number: MCWR08X1600FTL; Voltage: 150V; Temperature Coefficient: ± 100ppm/°C; Value: 160R; Supplier 1: Farnell; Supplier Part Number 1: 2694996; Tolerance: ± 1%; Power: 125mW; Package: 0805 [2012 Metric]; Part Type: Thick Film; ComponentLink1Description: Datasheet; ComponentLink1URL: http://www.farnell.com/datasheets/2189593.pdf; Mounting: SMD
footprint RESC2012N (Chip Resistor, Body 2.0x1.3mm, IPC Medium Density)
pins: 1, 2
1 alternate drawing of the same symbol

## MCWR08X1800FTL
designator R?, comment 180R
RES 180R, ±1%, 125mW, 0805 [2012 Metric], Thick Film; Manufacturer: MULTICOMP PRO; Manufacturer Part Number: MCWR08X1800FTL; Voltage: 150V; Temperature Coefficient: ± 100ppm/°C; Value: 180R; Supplier 1: Farnell; Supplier Part Number 1: 2447583; Tolerance: ± 1%; Power: 125mW; Package: 0805 [2012 Metric]; Part Type: Thick Film; ComponentLink1Description: Datasheet; ComponentLink1URL: http://www.farnell.com/datasheets/2563624.pdf; Mounting: SMD
footprint RESC2012N (Chip Resistor, Body 2.0x1.3mm, IPC Medium Density)
pins: 1, 2
1 alternate drawing of the same symbol

## MCWR08X1801FTL
designator R?, comment 1K8
RES 1K8, ±1%, 125mW, 150V, 0805 [2012 Metric], Thick Film; Manufacturer: MULTICOMP PRO; Manufacturer Part Number: MCWR08X1801FTL; Temperature Coefficient: ± 100ppm/°C; Value: 1K8; Supplier 1: Farnell; Supplier Part Number 1: 2447595; Tolerance: ± 1%; Power: 125mW; Voltage: 150V; Package: 0805 [2012 Metric]; Part Type: Thick Film; ComponentLink1Description: Datasheet; ComponentLink1URL: http://www.farnell.com/datasheets/2563624.pdf; Mounting: SMD
footprint RESC2012N (Chip Resistor, Body 2.0x1.3mm, IPC Medium Density)
pins: 1, 2
1 alternate drawing of the same symbol

## MCWR08X2701FTL
designator R?, comment 2K7
RES 2K7, ±1%, 125mW, 150V, 0805 [2012 Metric], Thick Film; Manufacturer: MULTICOMP PRO; Manufacturer Part Number: MCWR08X2701FTL; Temperature Coefficient: ± 100ppm/°C; Value: 2K7; Supplier 1: Farnell; Supplier Part Number 1: 2447627; Tolerance: ± 1%; Power: 125mW; Voltage: 150V; Package: 0805 [2012 Metric]; Part Type: Thick Film; ComponentLink1Description: Datasheet; ComponentLink1URL: http://www.farnell.com/datasheets/2563624.pdf; Mounting: SMD
footprint RESC2012N (Chip Resistor, Body 2.0x1.3mm, IPC Medium Density)
pins: 1, 2
1 alternate drawing of the same symbol

## MCWR08X3601FTL
designator R?, comment 3K6
RES 3K6, ±1%, 125mW, 0805 [2012 Metric], Thick Film; Manufacturer: MULTICOMP PRO; Manufacturer Part Number: MCWR08X3601FTL; Voltage: 150V; Temperature Coefficient: ± 100ppm/°C; Value: 3K6; Supplier 1: Farnell; Supplier Part Number 1: 2447652; Tolerance: ± 1%; Power: 125mW; Package: 0805 [2012 Metric]; Part Type: Thick Film; ComponentLink1Description: Datasheet; ComponentLink1URL: http://www.farnell.com/datasheets/2563624.pdf; Mounting: SMD
footprint RESC2012N (Chip Resistor, Body 2.0x1.3mm, IPC Medium Density)
pins: 1, 2
1 alternate drawing of the same symbol

## MCWR08X5101FTL
designator R?, comment 5K1
RES 5K1, ±1%, 125mW, 0805 [2012 Metric], Thick Film; Manufacturer: MULTICOMP PRO; Manufacturer Part Number: MCWR08X5101FTL; Voltage: 150V; Temperature Coefficient: ± 100ppm/°C; Value: 5K1; Supplier 1: Farnell; Supplier Part Number 1: 2447692; Tolerance: ± 1%; Power: 125mW; Package: 0805 [2012 Metric]; Part Type: Thick Film; ComponentLink1Description: Datasheet; ComponentLink1URL: http://www.farnell.com/datasheets/2563624.pdf; Mounting: SMD
footprint RESC2012N (Chip Resistor, Body 2.0x1.3mm, IPC Medium Density)
pins: 1, 2
1 alternate drawing of the same symbol

## MCWR08X6200FTL
designator R?, comment 620R
RES 620R, ±1%, 125mW, 150V, 0805 [2012 Metric], Thick Film; Manufacturer: MULTICOMP PRO; Manufacturer Part Number: MCWR08X6200FTL; Temperature Coefficient: ± 100ppm/°C; Value: 620R; Supplier 1: Farnell; Supplier Part Number 1: 2447700; Tolerance: ± 1%; Power: 125mW; Voltage: 150V; Package: 0805 [2012 Metric]; Part Type: Thick Film; ComponentLink1Description: Datasheet; ComponentLink1URL: http://www.farnell.com/datasheets/2563624.pdf; Mounting: SMD
footprint RESC2012N (Chip Resistor, Body 2.0x1.3mm, IPC Medium Density)
pins: 1, 2
1 alternate drawing of the same symbol

## MCWR08X6201FTL
designator R?, comment 6K2
RES 6K2, ±1%, 125mW, 150V, 0805 [2012 Metric], Thick Film; Manufacturer: MULTICOMP PRO; Manufacturer Part Number: MCWR08X6201FTL; Temperature Coefficient: ± 100ppm/°C; Value: 6K2; Supplier 1: Farnell; Supplier Part Number 1: 2447709; Tolerance: ± 1%; Power: 125mW; Voltage: 150V; Package: 0805 [2012 Metric]; Part Type: Thick Film; ComponentLink1Description: Datasheet; ComponentLink1URL: http://www.farnell.com/datasheets/2563624.pdf; Mounting: SMD
footprint RESC2012N (Chip Resistor, Body 2.0x1.3mm, IPC Medium Density)
pins: 1, 2
1 alternate drawing of the same symbol

## MCWR08X7501FTL
designator R?, comment 7K5
RES 7K5, ±1%, 125mW, 150V, 0805 [2012 Metric], Thick Film; Manufacturer: MULTICOMP PRO; Manufacturer Part Number: MCWR08X7501FTL; Temperature Coefficient: ± 100ppm/°C; Value: 7K5; Supplier 1: Farnell; Supplier Part Number 1: 2447722; Tolerance: ± 1%; Power: 125mW; Voltage: 150V; Package: 0805 [2012 Metric]; Part Type: Thick Film; ComponentLink1Description: Datasheet; ComponentLink1URL: http://www.farnell.com/datasheets/2563624.pdf; Mounting: SMD
footprint RESC2012N (Chip Resistor, Body 2.0x1.3mm, IPC Medium Density)
pins: 1, 2
1 alternate drawing of the same symbol

## MCWR08X8201FTL
designator R?, comment 8K2
RES 8K2, ±1%, 125mW, 150V, 0805 [2012 Metric], Thick Film; Manufacturer: multicompPro; Manufacturer Part Number: MCWR08X8201FTL; Temperature Coefficient: ±100ppm/°C; Value: 8K2; Supplier 1: Farnell; Supplier Part Number 1: 2447732; Tolerance: ± 1%; Power: 125mW; Voltage: 150V; Package: 0805 [2012 Metric]; Part Type: Thick Film; ComponentLink1Description: Datasheet; ComponentLink1URL: https://lt.farnell.com/panasonic/erjp06f1002v/res-10k-1-0-5w-0805-thick-film/dp/1750767; Mounting: SMD
footprint RESC2012N (Chip Resistor, Body 2.0x1.3mm, IPC Medium Density)
pins: 1, 2
1 alternate drawing of the same symbol

## MCWR08X9101FTL
designator R?, comment 9K1
RES 9K1, ±1%, 125mW, 150V, 0805 [2012 Metric], Thick Film; Manufacturer: MULTICOMP PRO; Manufacturer Part Number: MCWR08X9101FTL; Temperature Coefficient: ± 100ppm/°C; Value: 9K1; Supplier 1: Farnell; Supplier Part Number 1: 2447739; Tolerance: ± 1%; Power: 125mW; Voltage: 150V; Package: 0805 [2012 Metric]; Part Type: Thick Film; ComponentLink1Description: Datasheet; ComponentLink1URL: http://www.farnell.com/datasheets/2563624.pdf; Mounting: SMD
footprint RESC2012N (Chip Resistor, Body 2.0x1.3mm, IPC Medium Density)
pins: 1, 2
1 alternate drawing of the same symbol

## MCWR12W3R30FTL
designator R?, comment 3K3
RES 3K3, ±1%, 250mW, 200V, 1206 [3216 Metric], Thick Film; Manufacturer: MULTICOMP PRO; Manufacturer Part Number: MCWR12W3R30FTL; Temperature Coefficient: ± 200ppm/°C; Value: 3K3; Supplier 1: Farnell; Supplier Part Number 1: 2695112; Tolerance: ± 1%; Power: 250mW; Voltage: 200V; Package: 1206 [3216 Metric]; Part Type: Thick Film; ComponentLink1Description: Datasheet; ComponentLink1URL: http://www.farnell.com/datasheets/2189593.pdf; Mounting: SMD
footprint RESC3216N (Chip Resistor, Body 3.2x1.6mm, IPC Medium Density)
pins: 1, 2
1 alternate drawing of the same symbol

## MCWR12X1002FTL
designator R?, comment 10K
RES 10K, ±1%, 250mW, 200V, 1206 [3216 Metric], Thick Film; Manufacturer: MULTICOMP PRO; Manufacturer Part Number: MCWR12X1002FTL; Temperature Coefficient: ± 100ppm/°C; Value: 10K; Supplier 1: Farnell; Supplier Part Number 1: 2447455; Tolerance: ± 1%; Power: 250mW; Voltage: 200V; Package: 1206 [3216 Metric]; Part Type: Thick Film; ComponentLink1Description: Datasheet; ComponentLink1URL: http://www.farnell.com/datasheets/2563624.pdf; Mounting: SMD
footprint RESC3216N (Chip Resistor, Body 3.2x1.6mm, IPC Medium Density)
pins: 1, 2
1 alternate drawing of the same symbol

## MCWR12X1100FTL
designator R?, comment 110R
RES 110R, ±1%, 250mW, 200V, 1206 [3216 Metric], Thick Film; Manufacturer: MULTICOMP PRO; Manufacturer Part Number: MCWR12X1100FTL; Temperature Coefficient: ± 100ppm/°C; Value: 110R; Supplier 1: Farnell; Supplier Part Number 1: 2447459; Tolerance: ± 1%; Power: 250mW; Voltage: 200V; Package: 1206 [3216 Metric]; Part Type: Thick Film; ComponentLink1Description: Datasheet; ComponentLink1URL: http://www.farnell.com/datasheets/2563624.pdf; Mounting: SMD
footprint RESC3216N (Chip Resistor, Body 3.2x1.6mm, IPC Medium Density)
pins: 1, 2
1 alternate drawing of the same symbol

## MCWR12X1300FTL
designator R?, comment 130R
RES 130R, ±1%, 200mW, 200V, 1206 [3216 Metric], Thick Film; Manufacturer: MULTICOMP PRO; Manufacturer Part Number: MCWR12X1300FTL; Power: 250mW; Temperature Coefficient: ± 100ppm/°C; Value: 130R; Supplier 1: Farnell; Supplier Part Number 1: 2447464; Tolerance: ± 1%; Voltage: 200V; Package: 1206 [3216 Metric]; Part Type: Thick Film; ComponentLink1Description: Datasheet; ComponentLink1URL: http://www.farnell.com/datasheets/2563624.pdf; Mounting: SMD
footprint RESC3216N (Chip Resistor, Body 3.2x1.6mm, IPC Medium Density)
pins: 1, 2
1 alternate drawing of the same symbol

## MCWR12X1500FTL
designator R?, comment 150R
RES 150R, ±1%, 250mW, 200V, 1206 [3216 Metric], Thick Film; Manufacturer: MULTICOMP PRO; Manufacturer Part Number: MCWR12X1500FTL; Temperature Coefficient: ± 100ppm/°C; Value: 150R; Supplier 1: Farnell; Supplier Part Number 1: 2447466; Tolerance: ± 1%; Power: 250mW; Voltage: 200V; Package: 1206 [3216 Metric]; Part Type: Thick Film; ComponentLink1Description: Datasheet; ComponentLink1URL: http://www.farnell.com/datasheets/2563624.pdf; Mounting: SMD
footprint RESC3216N (Chip Resistor, Body 3.2x1.6mm, IPC Medium Density)
pins: 1, 2
1 alternate drawing of the same symbol

## MCWR12X2001FTL
designator R?, comment 2K
RES 2K, ±1%, 250mW, 200V, 1206 [3216 Metric], Thick Film; Manufacturer: MULTICOMP PRO; Manufacturer Part Number: MCWR12X2001FTL; Temperature Coefficient: ± 100ppm/°C; Value: 2K; Supplier 1: Farnell; Supplier Part Number 1: 2447495; Tolerance: ± 1%; Power: 250mW; Voltage: 200V; Package: 1206 [3216 Metric]; Part Type: Thick Film; ComponentLink1Description: Datasheet; ComponentLink1URL: http://www.farnell.com/datasheets/2563624.pdf; Mounting: SMD
footprint RESC3216N (Chip Resistor, Body 3.2x1.6mm, IPC Medium Density)
pins: 1, 2
1 alternate drawing of the same symbol

## MCWR12X2701FTL
designator R?, comment 2K7
RES 2K7, ±1%, 250mW, 200V, 1206 [3216 Metric], Thick Film; Manufacturer: MULTICOMP PRO; Manufacturer Part Number: MCWR12X2701FTL; Temperature Coefficient: ± 100ppm/°C; Value: 2K7; Supplier 1: Farnell; Supplier Part Number 1: 2447497; Tolerance: ± 1%; Power: 250mW; Voltage: 200V; Package: 1206 [3216 Metric]; Part Type: Thick Film; ComponentLink1Description: Datasheet; ComponentLink1URL: http://www.farnell.com/datasheets/2563624.pdf; Mounting: SMD
footprint RESC3216N (Chip Resistor, Body 3.2x1.6mm, IPC Medium Density)
pins: 1, 2
1 alternate drawing of the same symbol

## MCWR12X3000FTL
designator R?, comment 300R
RES 300R, ±1%, 250mW, 200V, 1206 [3216 Metric], Thick Film; Manufacturer: MULTICOMP PRO; Manufacturer Part Number: MCWR12X3000FTL; Temperature Coefficient: ± 100ppm/°C; Value: 300R; Supplier 1: Farnell; Supplier Part Number 1: 2447501; Tolerance: ± 1%; Power: 250mW; Voltage: 200V; Package: 1206 [3216 Metric]; Part Type: Thick Film; ComponentLink1Description: Datasheet; ComponentLink1URL: http://www.farnell.com/datasheets/2563624.pdf; Mounting: SMD
footprint RESC3216N (Chip Resistor, Body 3.2x1.6mm, IPC Medium Density)
pins: 1, 2
1 alternate drawing of the same symbol

## MCWR12X3001FTL
designator R?, comment 3K
RES 3K, ±1%, 250mW, 200V, 1206 [3216 Metric], Thick Film; Manufacturer: MULTICOMP PRO; Manufacturer Part Number: MCWR12X3001FTL; Temperature Coefficient: ± 100ppm/°C; Value: 3K; Supplier 1: Farnell; Supplier Part Number 1: 2447513; Tolerance: ± 1%; Power: 250mW; Voltage: 200V; Package: 1206 [3216 Metric]; Part Type: Thick Film; ComponentLink1Description: Datasheet; ComponentLink1URL: http://www.farnell.com/datasheets/2563624.pdf; Mounting: SMD
footprint RESC3216N (Chip Resistor, Body 3.2x1.6mm, IPC Medium Density)
pins: 1, 2
1 alternate drawing of the same symbol

## MCWR12X3601FTL
designator R?, comment 3K6
RES 3K6, ±1%, 250mW, 200V, 1206 [3216 Metric], Thick Film; Manufacturer: MULTICOMP PRO; Manufacturer Part Number: MCWR12X3601FTL; Temperature Coefficient: ± 100ppm/°C; Value: 3K6; Supplier 1: Farnell; Supplier Part Number 1: 2447515; Tolerance: ± 1%; Power: 250mW; Voltage: 200V; Package: 1206 [3216 Metric]; Part Type: Thick Film; ComponentLink1Description: Datasheet; ComponentLink1URL: http://www.farnell.com/datasheets/2563624.pdf; Mounting: SMD
footprint RESC3216N (Chip Resistor, Body 3.2x1.6mm, IPC Medium Density)
pins: 1, 2
1 alternate drawing of the same symbol

## MCWR12X3900FTL
designator R?, comment 390R
RES 390R, ±1%, 250mW, 1206 [3216 Metric], Thick Film; Manufacturer: MULTICOMP PRO; Manufacturer Part Number: MCWR12X3900FTL; Voltage: 200V; Temperature Coefficient: ± 100ppm/°C; Value: 390R; Supplier 1: Farnell; Supplier Part Number 1: 2447510; Tolerance: ± 1%; Power: 250mW; Package: 1206 [3216 Metric]; Part Type: Thick Film; ComponentLink1Description: Datasheet; ComponentLink1URL: http://www.farnell.com/datasheets/2563624.pdf; Mounting: SMD
footprint RESC3216N (Chip Resistor, Body 3.2x1.6mm, IPC Medium Density)
pins: 1, 2
1 alternate drawing of the same symbol

## MCWR12X3901FTL
designator R?, comment 3K9
RES 3K9, ±1%, 250mW, 200V, 1206 [3216 Metric], Thick Film; Manufacturer: MULTICOMP PRO; Manufacturer Part Number: MCWR12X3901FTL; Temperature Coefficient: ± 100ppm/°C; Value: 3K9; Supplier 1: Farnell; Supplier Part Number 1: 2447516; Tolerance: ± 1%; Power: 250mW; Voltage: 200V; Package: 1206 [3216 Metric]; Part Type: Thick Film; ComponentLink1Description: Datasheet; ComponentLink1URL: http://www.farnell.com/datasheets/2563624.pdf; Mounting: SMD
footprint RESC3216N (Chip Resistor, Body 3.2x1.6mm, IPC Medium Density)
pins: 1, 2
1 alternate drawing of the same symbol

## MCWR12X7501FTL
designator R?, comment 7K5
RES 7K5, ±1%, 250mW, 200V, 1206 [3216 Metric], Thick Film; Manufacturer: MULTICOMP PRO; Manufacturer Part Number: MCWR12X7501FTL; Temperature Coefficient: ± 100ppm/°C; Value: 7K5; Supplier 1: Farnell; Supplier Part Number 1: 2447543; Tolerance: ± 1%; Power: 250mW; Voltage: 200V; Package: 1206 [3216 Metric]; Part Type: Thick Film; ComponentLink1Description: Datasheet; ComponentLink1URL: http://www.farnell.com/datasheets/2563624.pdf; Mounting: SMD
footprint RESC3216N (Chip Resistor, Body 3.2x1.6mm, IPC Medium Density)
pins: 1, 2
1 alternate drawing of the same symbol

## MCWR12X8200FTL
designator R?, comment 820R
RES 820R, ±1%, 250mW, 200V, 1206 [3216 Metric], Thick Film; Manufacturer: MULTICOMP PRO; Manufacturer Part Number: MCWR12X8200FTL; Temperature Coefficient: ± 100ppm/°C; Value: 820R; Supplier 1: Farnell; Supplier Part Number 1: 2447544; Tolerance: ± 1%; Power: 250mW; Voltage: 200V; Package: 1206 [3216 Metric]; Part Type: Thick Film; ComponentLink1Description: Datasheet; ComponentLink1URL: http://www.farnell.com/datasheets/2563624.pdf; Mounting: SMD
footprint RESC3216N (Chip Resistor, Body 3.2x1.6mm, IPC Medium Density)
pins: 1, 2
1 alternate drawing of the same symbol

## MCWR12X9101FTL
designator R?, comment 9K1
RES 9K1, ±1%, 250mW, 200V, 1206 [3216 Metric], Thick Film; Manufacturer: MULTICOMP PRO; Manufacturer Part Number: MCWR12X9101FTL; Temperature Coefficient: ± 100ppm/°C; Value: 9K1; Supplier 1: Farnell; Supplier Part Number 1: 2447549; Tolerance: ± 1%; Power: 250mW; Voltage: 200V; Package: 1206 [3216 Metric]; Part Type: Thick Film; ComponentLink1Description: Datasheet; ComponentLink1URL: http://www.farnell.com/datasheets/2563624.pdf; Mounting: SMD
footprint RESC3216N (Chip Resistor, Body 3.2x1.6mm, IPC Medium Density)
pins: 1, 2
1 alternate drawing of the same symbol

## MP003724
designator R?, comment 1K6
RES 1K6, ±1%, 250mW, 200V, 1206 [3216 Metric], Thick Film; Manufacturer: MULTICOMP PRO; Manufacturer Part Number: MP003724; Temperature Coefficient: ± 100ppm/°C; Value: 1K6; Supplier 1: Farnell; Supplier Part Number 1: 3392921; Tolerance: ± 1%; Power: 250mW; Voltage: 200V; Package: 1206 [3216 Metric]; Part Type: Thick Film; ComponentLink1Description: Datasheet; ComponentLink1URL: http://www.farnell.com/datasheets/2921245.pdf; Mounting: SMD
footprint RESC3216N (Chip Resistor, Body 3.2x1.6mm, IPC Medium Density)
pins: 1, 2
1 alternate drawing of the same symbol

## PCAN0603E2501BST5
designator R?, comment 2K5
RES 2K5, ±0.1%, 500mW, 0603 [1608 Metric], Thin Film; Manufacturer: VISHAY; Manufacturer Part Number: PCAN0603E2501BST5; Power: 100mW; Voltage: 75V; Temperature Coefficient: ± 25ppm/°C; Value: 2K5; Supplier 1: Farnell; Supplier Part Number 1: 3596737; Tolerance: ± 0.1%; Package: 0603 [1608 Metric]; Part Type: Thin Film; ComponentLink1Description: Datasheet; ComponentLink1URL: http://www.farnell.com/datasheets/3169822.pdf; Mounting: SMD
footprint RESC1608N (Chip Resistor, Body 1.6x0.8mm, IPC Medium Density)
pins: 1, 2
1 alternate drawing of the same symbol

## PCF0603R-9K76BT1
designator R?, comment 9K76
RES 9K76, ±1%, 62.5mW, 50V, 0603 [1608 Metric], Thick Film; Manufacturer: TT ELECTRONICS / WELWYN; Manufacturer Part Number: PCF0603R-9K76BT1; Temperature Coefficient: ± 25ppm/K; Value: 9K76; Supplier 1: Farnell; Supplier Part Number 1: 1160358; Tolerance: ± 1%; Power: 62.5mW; Voltage: 50V; Package: 0603 [1608 Metric]; Part Type: Thin Film; ComponentLink1Description: Datasheet; ComponentLink1URL: http://www.farnell.com/datasheets/2710384.pdf; Mounting: SMD
footprint RESC1608N (Chip Resistor, Body 1.6x0.8mm, IPC Medium Density)
pins: 1, 2
1 alternate drawing of the same symbol